# Altium footprint library Vishay Electrolytic Radial-Lead Capacitor.PcbLib: 18 footprints (part 1 of 2)
Each footprint in its own frame and in the unit in brackets; x right, y up, seen from the top. Pads: shape width x height; smd on the part's side, far side on the other; paste and mask are expansions set on the pad; w line width, h text height; cw(c..) or ccw(c..) is an arc to the next point about the centre after c.
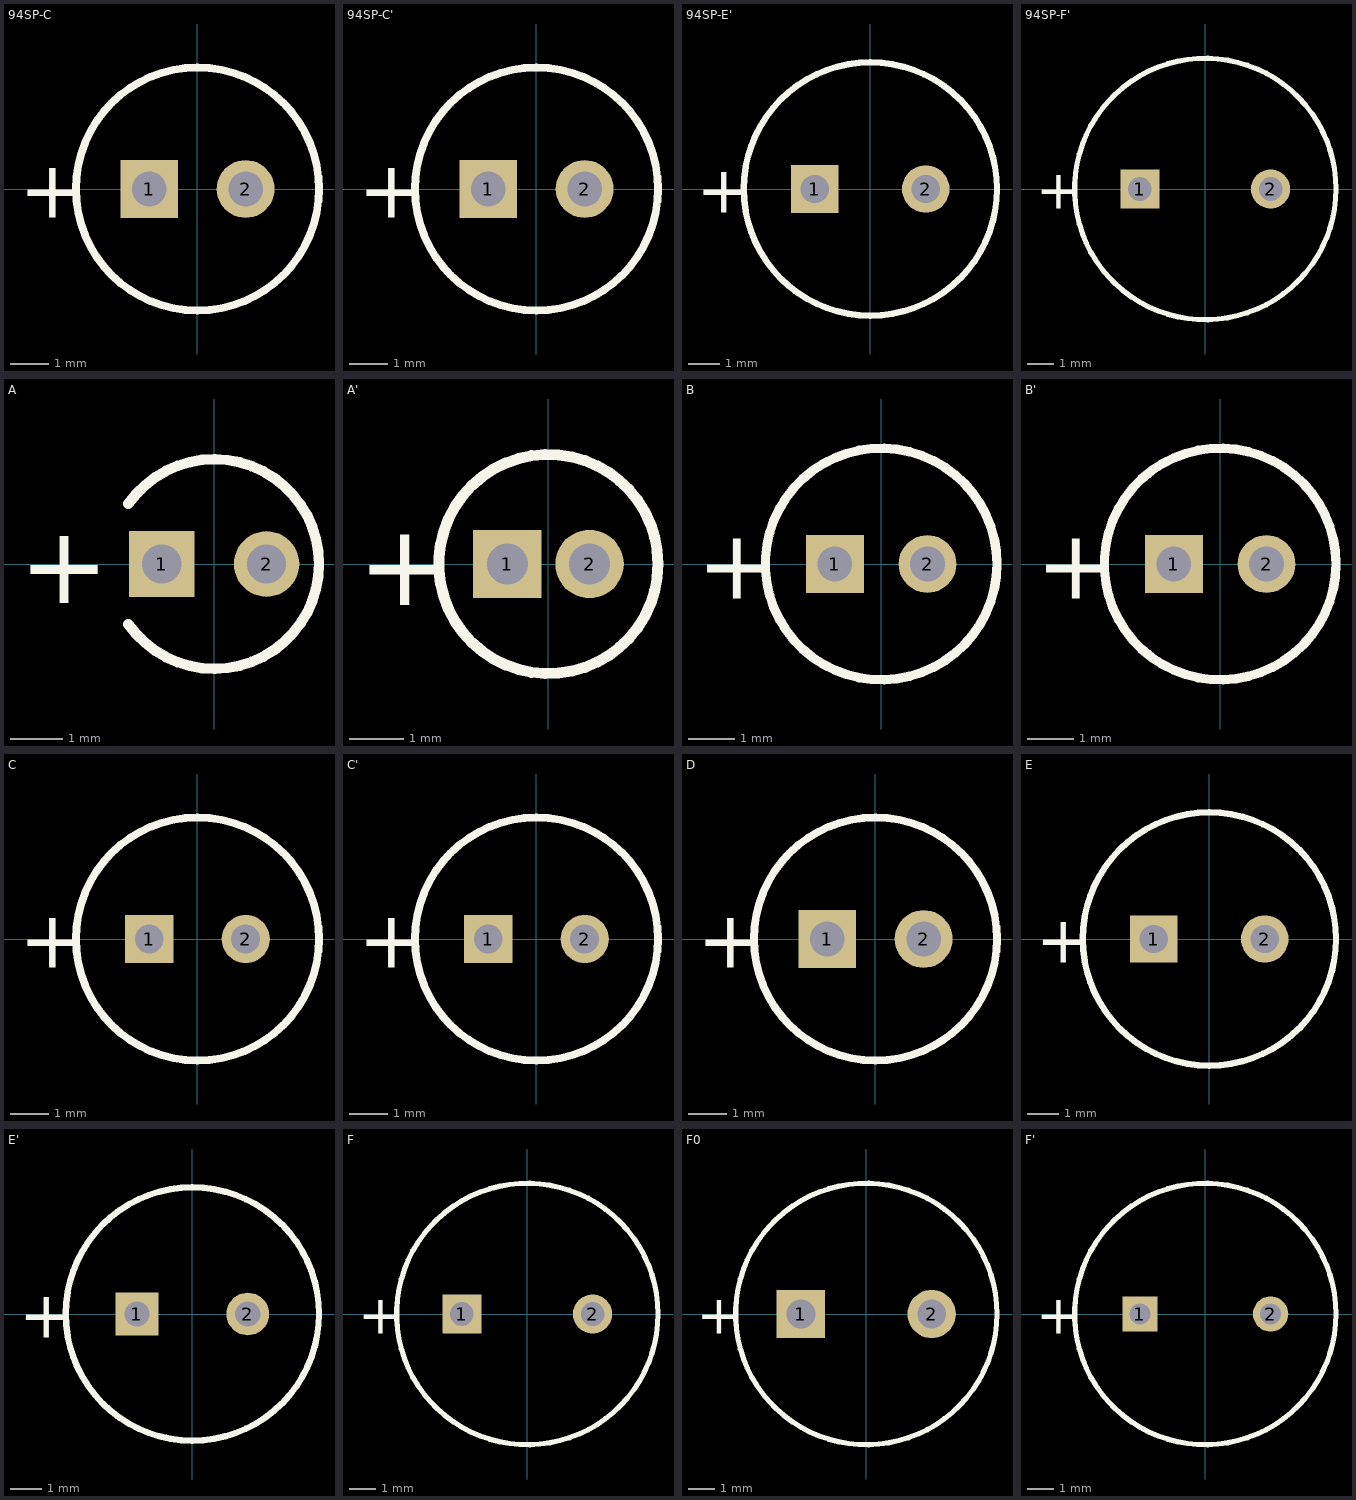
[diagram p0: the footprints below, top view; thin cyan lines are the x and y axes]

## 94SP-C [mm] "Capacitor, Electrolytic, Radial; Body 6.3 x 6.8 mm (Dia.xH typ); Pin Spacing 2.5 mm (typ)"
height 7.8
pads (2):
  rect 1.5x1.5 hole 0.9: 1(-1.25,0)
  round 1.5 hole 0.9: 2(1.25,0)
Top Overlay:
  circle w0.2: c0,0 r3.15
  text "+" at -4.625,-0.75 h1.5

## 94SP-C' [mm] "Capacitor, Electrolytic, Radial; Body 6.3 x 5 mm (Dia.xH typ); Pin Spacing 2.5 mm (typ)"
height 6
pads (2):
  rect 1.5x1.5 hole 0.9: 1(-1.25,0)
  round 1.5 hole 0.9: 2(1.25,0)
Top Overlay:
  circle w0.2: c0,0 r3.15
  text "+" at -4.625,-0.75 h1.5

## 94SP-E' [mm] "Capacitor, Electrolytic, Radial; Body 8 x 5 mm (Dia.xH typ); Pin Spacing 3.5 mm (typ)"
height 6
pads (2):
  rect 1.5x1.51 hole 0.9: 1(-1.75,0)
  round 1.5 hole 0.9: 2(1.75,0)
Top Overlay:
  circle w0.2: c0,0 r4
  text "+" at -5.475,-0.75 h1.5

## 94SP-F' [mm] "Capacitor, Electrolytic, Radial; Body 10 x 5 mm (Dia.xH typ); Pin Spacing 5 mm (typ)"
height 6
pads (2):
  rect 1.5x1.5 hole 0.9: 1(-2.5,0)
  round 1.5 hole 0.9: 2(2.5,0)
Top Overlay:
  circle w0.2: c0,0 r5
  text "+" at -6.475,-0.75 h1.5

## A [mm] "Capacitor, Electrolytic, Radial; Body 4 x 6.8 mm (Dia.xH typ); Pin Spacing 2 mm (typ)"
height 7.8
pads (2):
  rect 1.25x1.25 hole 0.75: 1(-1,0)
  round 1.25 hole 0.75: 2(1,0)
Top Overlay:
  lines w0.2: -1.638,-1.147 ccw(c0,0) 2,0 ccw(c0,0) -1.638,1.147
  text "+" at -3.725,-0.75 h1.5

## A' [mm] "Capacitor, Electrolytic, Radial; Body 4 x 5 mm (Dia.xH typ); Pin Spacing 1.5 mm (typ)"
height 6
pads (2):
  rect 1.25x1.25 hole 0.75: 1(-0.75,0)
  round 1.25 hole 0.75: 2(0.75,0)
Top Overlay:
  circle w0.2: c0,0 r2
  text "+" at -3.475,-0.75 h1.5

## B [mm] "Capacitor, Electrolytic, Radial; Body 5 x 6.8 mm (Dia.xH typ); Pin Spacing 2 mm (typ)"
height 7.8
pads (2):
  rect 1.25x1.25 hole 0.75: 1(-1,0)
  round 1.25 hole 0.75: 2(1,0)
Top Overlay:
  circle w0.2: c0,0 r2.5
  text "+" at -3.975,-0.75 h1.5

## B' [mm] "Capacitor, Electrolytic, Radial; Body 5 x 5 mm (Dia.xH typ); Pin Spacing 2 mm (typ)"
height 6
pads (2):
  rect 1.25x1.25 hole 0.75: 1(-1,0)
  round 1.25 hole 0.75: 2(1,0)
Top Overlay:
  circle w0.2: c0,0 r2.5
  text "+" at -3.975,-0.75 h1.5

## C [mm] "Capacitor, Electrolytic, Radial; Body 6.3 x 6.8 mm (Dia.xH typ); Pin Spacing 2.5 mm (typ)"
height 7.8
pads (2):
  rect 1.25x1.25 hole 0.75: 1(-1.25,0)
  round 1.25 hole 0.75: 2(1.25,0)
Top Overlay:
  circle w0.2: c0,0 r3.15
  text "+" at -4.625,-0.75 h1.5

## C' [mm] "Capacitor, Electrolytic, Radial; Body 6.3 x 5 mm (Dia.xH typ); Pin Spacing 2.5 mm (typ)"
height 6
pads (2):
  rect 1.25x1.25 hole 0.75: 1(-1.25,0)
  round 1.25 hole 0.75: 2(1.25,0)
Top Overlay:
  circle w0.2: c0,0 r3.15
  text "+" at -4.625,-0.75 h1.5

## D [mm] "Capacitor, Electrolytic, Radial; Body 6.3 x 9.8 mm (Dia.xH typ); Pin Spacing 2.5 mm (typ)"
height 10.8
pads (2):
  rect 1.5x1.5 hole 0.9: 1(-1.25,0)
  round 1.5 hole 0.9: 2(1.25,0)
Top Overlay:
  circle w0.2: c0,0 r3.15
  text "+" at -4.625,-0.75 h1.5

## E [mm] "Capacitor, Electrolytic, Radial; Body 8 x 10.5 mm (Dia.xH typ); Pin Spacing 3.5 mm (typ)"
height 11.5
pads (2):
  rect 1.5x1.5 hole 0.9: 1(-1.75,0)
  round 1.5 hole 0.9: 2(1.75,0)
Top Overlay:
  circle w0.2: c0,0 r4
  text "+" at -5.475,-0.75 h1.5

## E' [mm] "Capacitor, Electrolytic, Radial; Body 8 x 5 mm (Dia.xH typ); Pin Spacing 3.5 mm (typ)"
height 6
pads (2):
  rect 1.35x1.35 hole 0.8: 1(-1.75,0)
  round 1.35 hole 0.8: 2(1.75,0)
Top Overlay:
  circle w0.2: c0,0 r4
  text "+" at -5.475,-0.75 h1.5

## F [mm] "Capacitor, Electrolytic, Radial; Body 10 x 10.5 mm (Dia.xH typ); Pin Spacing 5 mm (typ)"
height 11.5
pads (2):
  rect 1.5x1.5 hole 0.9: 1(-2.5,0)
  round 1.5 hole 0.9: 2(2.5,0)
Top Overlay:
  circle w0.2: c0,0 r5
  text "+" at -6.475,-0.75 h1.5

## F0 [mm] "Capacitor, Electrolytic, Radial; Body 10 x 20 mm (Dia.xH typ); Pin Spacing 5 mm (typ)"
height 21
pads (2):
  rect 1.85x1.85 hole 1.1: 1(-2.5,0)
  round 1.85 hole 1.1: 2(2.5,0)
Top Overlay:
  circle w0.2: c0,0 r5
  text "+" at -6.475,-0.75 h1.5

## F' [mm] "Capacitor, Electrolytic, Radial; Body 10 x 5 mm (Dia.xH typ); Pin Spacing 5 mm (typ)"
height 6
pads (2):
  rect 1.35x1.35 hole 0.8: 1(-2.5,0)
  round 1.35 hole 0.8: 2(2.5,0)
Top Overlay:
  circle w0.2: c0,0 r5
  text "+" at -6.475,-0.75 h1.5